# Altium integrated library TCM1210.IntLib: 1 symbol
Pins are listed as number, name and electrical type; pins without a type are passive.

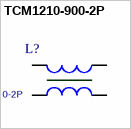
[diagram p0: symbol TCM1210-900-2P]

## TCM1210-900-2P
designator L?
ID: TCM1210-900-2P; PDF: http://media.digikey.com/pdf/Data%20Sheets/TDK%20PDFs/TCM1210.pdf; BUY_LINK: http://www.digikey.com/product-detail/en/TCM1210-900-2P-T/445-2971-6-ND/1816585; PRICE: *
footprint TCM1210
pins: 1, 2, 3, 4